# EAGLE library part ESP32-DEVKIT_38P (library Nextion handheld controller)
Check availability <https://pricing.snapeda.com/parts/ESP32-DEVKITC-32D/Espressif%20Systems/view-part?ref=eda>
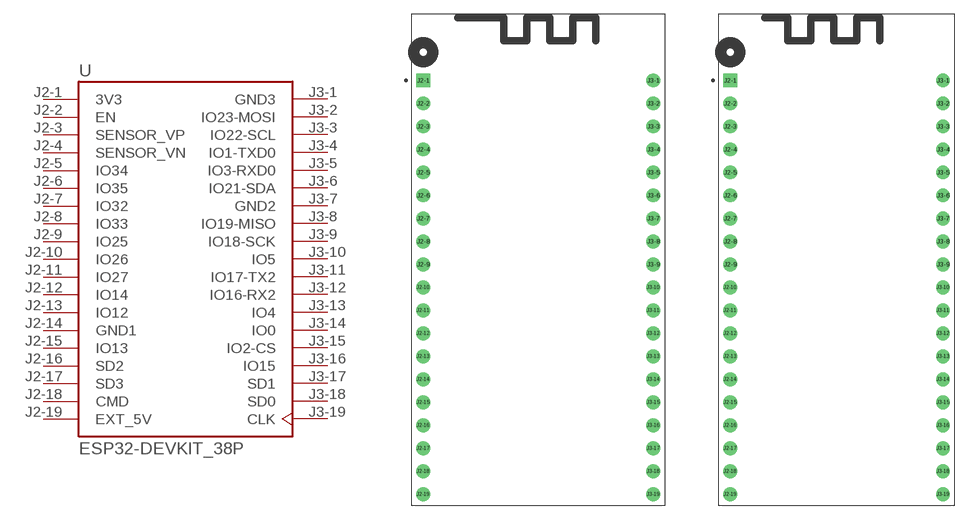
[diagram p17: symbol with the pads of ESP32-DEVKIT_C_38P_V4; footprints ESP32-DEVKIT_C_38P_V4, ESP32-DEVKIT_38P_V1]

Designator prefix U

## ESP32-DEVKIT_38P25,4MM (AVAILABILITY: In Stock; CHECK_PRICES: https://www.snapeda.com/parts/ESP32-DEVKITC-32D/Espressif+Systems/view-part/?ref=eda; DESCRIPTION: WiFi Development Tools (802.11) ESP32 General Development Kit, ESP32-WROOM-32D on the board; MF: Espressif Systems; MP: ESP32-DEVKITC-32D; PACKAGE: None; PRICE: None; PURCHASE-URL: https://www.snapeda.com/api/url_track_click_mouser/?unipart_id=2777395&manufacturer=Espressif Systems&part_name=ESP32-DEVKITC-32D&search_term=None; SNAPEDA_LINK: https://www.snapeda.com/parts/ESP32-DEVKITC-32D/Espressif+Systems/view-part/?ref=snap)  [ESP32-DEVKIT_C_38P_V4]
J2-1  3V3  pwr
J2-2  EN  in
J2-3  SENSOR_VP  in
J2-4  SENSOR_VN  in
J2-5  IO34
J2-6  IO35
J2-7  IO32
J2-8  IO33
J2-9  IO25
J2-10  IO26
J2-11  IO27
J2-12  IO14
J2-13  IO12
J2-14  GND1  pwr
J2-15  IO13
J2-16  SD2
J2-17  SD3
J2-18  CMD
J2-19  EXT_5V  pwr
J3-1  GND3  pwr
J3-2  IO23-MOSI
J3-3  IO22-SCL
J3-4  IO1-TXD0  out
J3-5  IO3-RXD0  in
J3-6  IO21-SDA
J3-7  GND2  pwr
J3-8  IO19-MISO
J3-9  IO18-SCK
J3-10  IO5
J3-11  IO17-TX2
J3-12  IO16-RX2
J3-13  IO4
J3-14  IO0
J3-15  IO2-CS
J3-16  IO15
J3-17  SD1
J3-18  SD0
J3-19  CLK  in

## ESP32-DEVKIT_38P23,5MM  [ESP32-DEVKIT_38P_V1]
Pads as for ESP32-DEVKIT_C_38P_V4

## Footprint ESP32-DEVKIT_C_38P_V4 (pad centres in mm)
25,4mm pin row distance
drill 1.016 square: J2-1 -12.7,19.76
drill 1.016: J2-2 -12.7,17.22; J2-3 -12.7,14.68; J2-4 -12.7,12.14; J2-5 -12.7,9.6; J2-6 -12.7,7.06; J2-7 -12.7,4.52; J2-8 -12.7,1.98; J2-9 -12.7,-0.56; J2-10 -12.7,-3.1; J2-11 -12.7,-5.64; J2-12 -12.7,-8.18; J2-13 -12.7,-10.72; J2-14 -12.7,-13.26; J2-15 -12.7,-15.8; J2-16 -12.7,-18.34; J2-17 -12.7,-20.88; J2-18 -12.7,-23.42; J2-19 -12.7,-25.96; J3-1 12.7,19.76; J3-2 12.7,17.22; J3-3 12.7,14.68; J3-4 12.7,12.14; J3-5 12.7,9.6; J3-6 12.7,7.06; J3-7 12.7,4.52; J3-8 12.7,1.98; J3-9 12.7,-0.56; J3-10 12.7,-3.1; J3-11 12.7,-5.64; J3-12 12.7,-8.18; J3-13 12.7,-10.72; J3-14 12.7,-13.26; J3-15 12.7,-15.8; J3-16 12.7,-18.34; J3-17 12.7,-20.88; J3-18 12.7,-23.42; J3-19 12.7,-25.96

## Footprint ESP32-DEVKIT_38P_V1 (pad centres in mm)
23,5mm pin row distance
drill 1.016 square: J2-1 -11.43,19.76
drill 1.016: J2-2 -11.43,17.22; J2-3 -11.43,14.68; J2-4 -11.43,12.14; J2-5 -11.43,9.6; J2-6 -11.43,7.06; J2-7 -11.43,4.52; J2-8 -11.43,1.98; J2-9 -11.43,-0.56; J2-10 -11.43,-3.1; J2-11 -11.43,-5.64; J2-12 -11.43,-8.18; J2-13 -11.43,-10.72; J2-14 -11.43,-13.26; J2-15 -11.43,-15.8; J2-16 -11.43,-18.34; J2-17 -11.43,-20.88; J2-18 -11.43,-23.42; J2-19 -11.43,-25.96; J3-1 12.065,19.76; J3-2 12.065,17.22; J3-3 12.065,14.68; J3-4 12.065,12.14; J3-5 12.065,9.6; J3-6 12.065,7.06; J3-7 12.065,4.52; J3-8 12.065,1.98; J3-9 12.065,-0.56; J3-10 12.065,-3.1; J3-11 12.065,-5.64; J3-12 12.065,-8.18; J3-13 12.065,-10.72; J3-14 12.065,-13.26; J3-15 12.065,-15.8; J3-16 12.065,-18.34; J3-17 12.065,-20.88; J3-18 12.065,-23.42; J3-19 12.065,-25.96